# EAGLE library part 687114183622 (library Eagle_FPC_CONNECTOR_AND_FFC_CAB (rev18c))
687116183622 WR-FPC 0.50mm SMT Horizontal Top Contact - Low Profile <http://katalog.we-online.de/media/images/v2/Family_WR-FPC_6871xx183622.jpg> Details see: http://katalog.we-online.de/en/em/FPC_0_5_SMT_ZIF_HORIZONTAL_TOP_CONTACT_LOW_PROFILE_6871xx183622 Created by Yingchun,shan 2016 (C) Wurth Elektronik
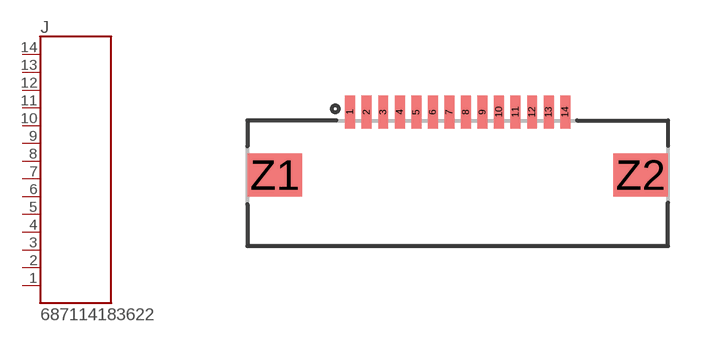
[diagram p179: symbol with the pads of 687114183622; footprint 687114183622]

Designator prefix J

## 687114183622  [687114183622]
1  14  pas
2  13  pas
3  12  pas
4  11  pas
5  10  pas
6  9  pas
7  8  pas
8  7  pas
9  6  pas
10  5  pas
11  4  pas
12  3  pas
13  2  pas
14  1  pas

## Footprint 687114183622 (pad centres in mm)
smd 0.3 x 1: 1 -3.25,1.9; 2 -2.75,1.9; 3 -2.25,1.9; 4 -1.75,1.9; 5 -1.25,1.9; 6 -0.75,1.9; 7 -0.25,1.9; 8 0.25,1.9; 9 0.75,1.9; 10 1.25,1.9; 11 1.75,1.9; 12 2.25,1.9; 13 2.75,1.9; 14 3.25,1.9
smd 1.65 x 1.3: Z1 -5.525,0; Z2 5.525,0